# Altium schematic symbol library conn-micro-SD-cd.Schlib: 1 symbol
Pins are listed as number, name and electrical type; pins without a type are passive.

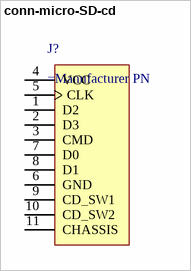
[diagram p0: symbol conn-micro-SD-cd]

## conn-micro-SD-cd
designator J?
MicroSD Card Connector w/ Card Detect Switch
pins: 1 D2, 2 D3, 3 CMD, 4 VCC, 5 CLK, 6 GND, 7 D0, 8 D1, 9 CD_SW1, 10 CD_SW2, 11 CHASSIS